# Altium footprint library FUSE_RST_1210_TYCO.PcbLib: 1 footprints
Each footprint in its own frame and in the unit in brackets; x right, y up, seen from the top. Pads: shape width x height; smd on the part's side, far side on the other; paste and mask are expansions set on the pad; w line width, h text height; cw(c..) or ccw(c..) is an arc to the next point about the centre after c.
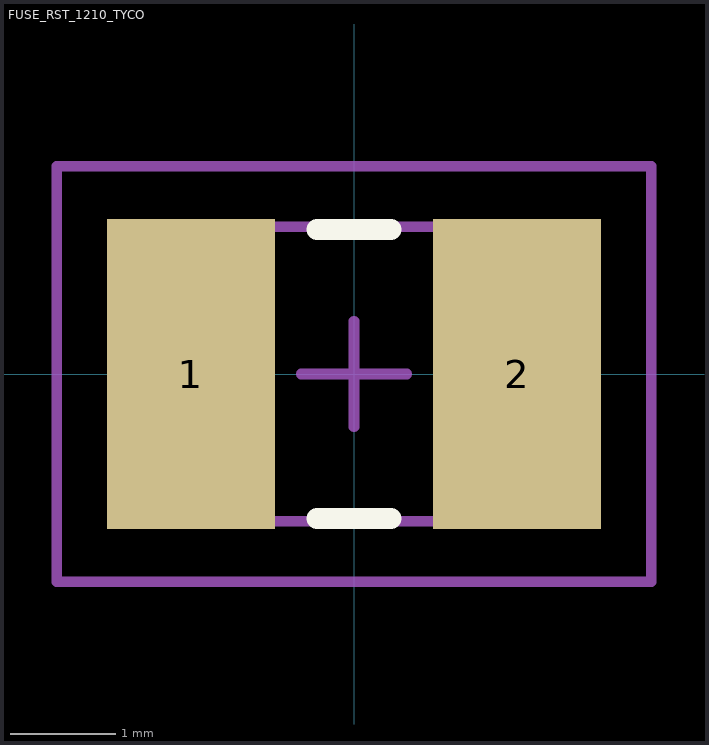
[diagram p0: the footprint, top view; thin cyan lines are the x and y axes]

## FUSE_RST_1210_TYCO [mm]
height 0.85
pads (2):
  rect 1.6x2.95 smd: 1(-1.55,0) 2(1.55,0)
Top Overlay:
  lines w0.2: -0.35,-1.375 0.35,-1.375 ; -0.35,1.375 0.35,1.375
Mechanical 13:
  lines w0.1: -1.715,-1.4 1.715,-1.4 1.715,1.4 -1.715,1.4 -1.715,-1.4
Mechanical 15:
  lines w0.1: -0.5,0 0.5,0 ; 0,-0.5 0,0.5 ; -2.825,-1.975 2.825,-1.975 2.825,1.975 -2.825,1.975 -2.825,-1.975
3D body: height 0.71, standoff -0.01, extent -1.595,-1.25 1.605,1.25